# Altium footprint library Breathalyzer.PcbLib: 32 footprints (part 2 of 2)
Each footprint in its own frame and in the unit in brackets; x right, y up, seen from the top. Pads: shape width x height; smd on the part's side, far side on the other; paste and mask are expansions set on the pad; w line width, h text height; cw(c..) or ccw(c..) is an arc to the next point about the centre after c.
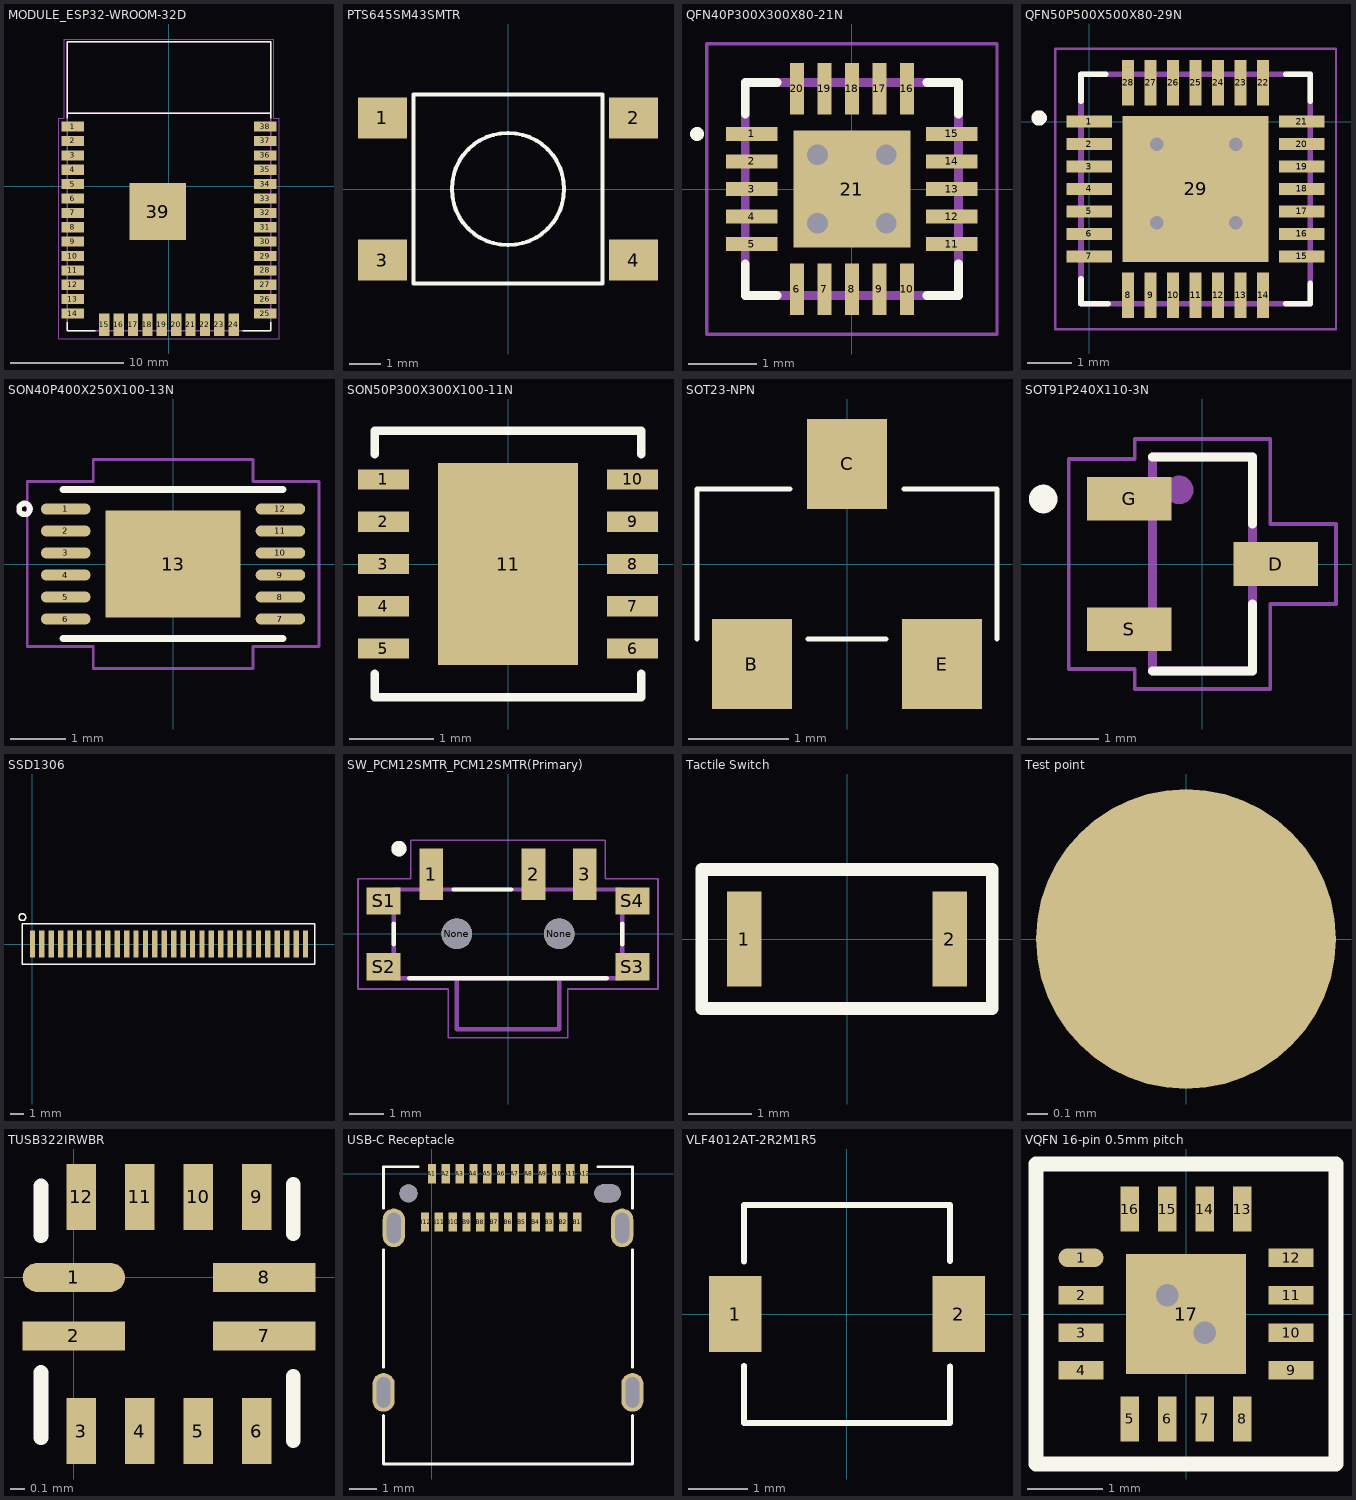
[diagram p1: the footprints below, top view; thin cyan lines are the x and y axes]

## MODULE_ESP32-WROOM-32D [mm]
pads (39):
  rect 2x0.9 smd: 1(-8.5,5.26) 2(-8.5,3.99) 3(-8.5,2.72) 4(-8.5,1.45) 5(-8.5,0.18) 6(-8.5,-1.09) 7(-8.5,-2.36) 8(-8.5,-3.63) 9(-8.5,-4.9) 10(-8.5,-6.17) 11(-8.5,-7.44) 12(-8.5,-8.71) 13(-8.5,-9.98) 14(-8.5,-11.25) 25(8.5,-11.25) 26(8.5,-9.98) 27(8.5,-8.71) 28(8.5,-7.44) 29(8.5,-6.17) 30(8.5,-4.9) 31(8.5,-3.63) 32(8.5,-2.36) 33(8.5,-1.09) 34(8.5,0.18) 35(8.5,1.45) 36(8.5,2.72) 37(8.5,3.99) 38(8.5,5.26)
  rect 0.9x2 smd: 15(-5.715,-12.25) 16(-4.445,-12.25) 17(-3.175,-12.25) 18(-1.905,-12.25) 19(-0.635,-12.25) 20(0.635,-12.25) 21(1.905,-12.25) 22(3.175,-12.25) 23(4.445,-12.25) 24(5.715,-12.25)
  rect 5x5 smd: 39(-1,-2.24)
Top Overlay:
  lines w0.127: -9,-12 -9,-12.75 -6.5,-12.75 ; -9,6 -9,12.75 9,12.75 9,6 ; -8.96,6.45 8.96,6.45 ; 6.5,-12.75 9,-12.75 9,-12
Top Paste:
  region: -2.584,-0.659 0.581,-0.659 0.581,-3.825 -2.584,-3.825
Mechanical 4:
  circle w0.3: c-8.277,5.238 r0.1
  circle w0.3: c-8.277,5.238 r0.1
  lines w0.127: -9,-12.75 9,-12.75 ; -9,-12.75 -9,12.75 ; -9,-12.75 9,-12.75 ; -9,-12.75 -9,12.75 ; -9,12.75 9,12.75 ; -9,12.75 9,12.75 ; 9,-12.75 9,12.75 ; 9,-12.75 9,12.75 ; -8.96,6.45 8.96,6.45 -8.96,6.45
  text "ANTENNA" at -5.725,8.401 h1.88
  text "ANTENNA" at -5.725,8.401 h1.88
Mechanical 16:
  lines w0.05: -9.75,-13.5 9.75,-13.5 9.75,6 9.25,6 9.25,13 -9.25,13 -9.25,6 -9.75,6 -9.75,-13.5
3D body "ESP32-WROOM-32D--3DModel-STEP-56544.STEP": height 3.26, standoff 0.01, extent -9,-12.75 9,12.75

## PTS645SM43SMTR [mm]
pads (4):
  rect 1.55x1.3 smd: 1(-3.975,2.25) 2(3.975,2.25) 3(-3.975,-2.25) 4(3.975,-2.25)
Top Overlay:
  circle w0.127: c0,0 r1.778
  lines w0.127: -3,-3 -3,3 3,3 3,-3 -3,-3
3D body "PTS645SL50SMTR92LFS.stp": height 5.02, standoff 0.01, extent -4.5,-3 4.5,3.002

## QFN40P300X300X80-21N [mm]
pads (21):
  rect 0.75x0.2 smd mask+0.05: 1(-1.455,0.8) 2(-1.455,0.4) 3(-1.455,0) 4(-1.455,-0.4) 5(-1.455,-0.8) 11(1.455,-0.8) 12(1.455,-0.4) 13(1.455,0) 14(1.455,0.4) 15(1.455,0.8)
  rect 0.2x0.75 smd mask+0.05: 6(-0.8,-1.455) 7(-0.4,-1.455) 8(0,-1.455) 9(0.4,-1.455) 10(0.8,-1.455) 16(0.8,1.455) 17(0.4,1.455) 18(0,1.455) 19(-0.4,1.455) 20(-0.8,1.455)
  rect 1.7x1.7 smd mask+0.05: 21(0,0)
via -0.5,0.5 diameter 0.6 hole 0.3
via 0.5,0.5 diameter 0.6 hole 0.3
via -0.5,-0.5 diameter 0.6 hole 0.3
via 0.5,-0.5 diameter 0.6 hole 0.3
Top Overlay:
  circle w0.2: c-2.25,0.8 r0.003
  lines w0.127: -1.55,-1.09 -1.55,-1.55 -1.09,-1.55 ; -1.55,1.09 -1.55,1.55 -1.09,1.55 ; 1.09,-1.55 1.55,-1.55 1.55,-1.09 ; 1.09,1.55 1.55,1.55 1.55,1.09
Top Paste:
  region: -0.538,0.538 0.538,0.538 0.538,-0.538 -0.538,-0.538
Mechanical 4:
  circle w0.2: c-1.25,0.8 r0.003
  circle w0.2: c-1.25,0.8 r0.003
  lines w0.127: -1.55,-1.55 1.55,-1.55 ; -1.55,-1.55 -1.55,1.55 ; -1.55,-1.55 1.55,-1.55 ; -1.55,-1.55 -1.55,1.55 ; -1.55,1.55 1.55,1.55 ; -1.55,1.55 1.55,1.55 ; 1.55,-1.55 1.55,1.55 ; 1.55,-1.55 1.55,1.55
Mechanical 16:
  lines w0.05: -2.11,-2.11 2.11,-2.11 2.11,2.11 -2.11,2.11 -2.11,-2.11
3D body "User Library-QFN-20-2.step": height 0.75, standoff 0, extent -1.52,-1.51 1.5,1.51

## QFN50P500X500X80-29N [mm]
pads (29):
  rect 1.01x0.27 smd mask+0.05: 1(0,0) 2(0,-0.5) 3(0,-1) 4(0,-1.5) 5(0,-2) 6(0,-2.5) 7(0,-3) 15(4.72,-3) 16(4.72,-2.5) 17(4.72,-2) 18(4.72,-1.5) 19(4.72,-1) 20(4.72,-0.5) 21(4.72,0)
  rect 0.27x1.01 smd mask+0.05: 8(0.86,-3.86) 9(1.36,-3.86) 10(1.86,-3.86) 11(2.36,-3.86) 12(2.86,-3.86) 13(3.36,-3.86) 14(3.86,-3.86) 22(3.86,0.86) 23(3.36,0.86) 24(2.86,0.86) 25(2.36,0.86) 26(1.86,0.86) 27(1.36,0.86) 28(0.86,0.86)
  rect 3.25x3.25 smd mask+0.05: 29(2.36,-1.5)
via 3.25,-2.25 diameter 0.6 hole 0.3
via 1.5,-2.25 diameter 0.6 hole 0.3
via 3.25,-0.5 diameter 0.6 hole 0.3
via 1.5,-0.5 diameter 0.6 hole 0.3
Top Overlay:
  circle w0.2: c-1.118,0.078 r0.07
  lines w0.127: -0.19,-3.5 -0.19,-4.05 0.41,-4.05 ; -0.19,0.45 -0.19,1.05 0.36,1.05 ; 4.36,-4.05 4.91,-4.05 4.91,-3.6 ; 4.36,1.05 4.91,1.05 4.91,0.45
Top Paste:
  region: 2.54,-0.17 3.69,-0.17 3.69,-1.32 2.54,-1.32
  region: 1.029,-1.321 1.029,-0.169 2.179,-0.169 2.179,-1.321
  region: 2.18,-2.831 1.029,-2.831 1.029,-1.68 2.18,-1.68
  region: 3.691,-1.681 3.691,-2.831 2.539,-2.831 2.539,-1.681
Mechanical 4:
  lines w0.127: -0.19,-4.05 4.91,-4.05 ; -0.19,-4.05 -0.19,1.05 ; -0.19,-4.05 4.91,-4.05 ; -0.19,-4.05 -0.19,1.05 ; -0.19,1.05 4.91,1.05 ; -0.19,1.05 4.91,1.05 ; 4.91,-4.05 4.91,1.05 ; 4.91,-4.05 4.91,1.05
Mechanical 16:
  lines w0.05: -0.76,-4.62 5.48,-4.62 5.48,1.62 -0.76,1.62 -0.76,-4.62
3D body "User Library-QFN28-0_5.STEP": height 1, standoff 0, extent -0.2,-4 4.8,1

## SON40P400X250X100-13N [mm]
pads (13):
  oval 0.9x0.2 smd mask+0.05: 1(-1.95,1) 2(-1.95,0.6) 3(-1.95,0.2) 4(-1.95,-0.2) 5(-1.95,-0.6) 6(-1.95,-1) 7(1.95,-1) 8(1.95,-0.6) 9(1.95,-0.2) 10(1.95,0.2) 11(1.95,0.6) 12(1.95,1)
  rect 2.45x1.95 smd mask+0.102: 13(0,0)
Top Overlay:
  circle w0.1: c-2.7,1 r0.1
  lines w0.127: -2,-1.35 2,-1.35 ; -2,1.35 2,1.35
Top Paste:
  region: 1.1,0.9 1.1,0.1 0.1,0.1 0.1,0.9
  region: -0.1,-0.1 -0.1,-0.902 -1.102,-0.902 -1.102,-0.1
  region: -0.101,0.901 -0.101,0.099 -1.101,0.099 -1.101,0.901
  region: 1.101,-0.101 1.101,-0.901 0.099,-0.901 0.099,-0.101
Mechanical 16:
  lines w0.05: -2.65,-1.5 -1.45,-1.5 -1.45,-1.9 1.45,-1.9 1.45,-1.5 2.65,-1.5 2.65,1.5 1.45,1.5 1.45,1.9 -1.45,1.9 -1.45,1.5 -2.65,1.5 -2.65,-1.5
3D body "User Library-SON-12-2.step": height 1.06, standoff 0.01, extent -2.075,-1.3 2.075,1.3

## SON50P300X300X100-11N [mm]
pads (11):
  rect 0.6x0.24 smd mask+0.05: 1(-1.473,1) 2(-1.473,0.5) 3(-1.473,0) 4(-1.473,-0.5) 5(-1.473,-1) 6(1.473,-1) 7(1.473,-0.5) 8(1.473,0) 9(1.473,0.5) 10(1.473,1)
  rect 1.651x2.388 smd mask+0.05: 11(0,0)
Top Overlay:
  lines w0.1: -1.575,-1.3 -1.575,-1.575 1.575,-1.575 1.575,-1.295 ; -1.575,1.3 -1.575,1.575 1.575,1.575 1.575,1.295
3D body "SON50P300X300X100-11N__NA__TEXAS INSTRUMENTS__VSON-10__DRC--3DModel-Eagle-1.STEP": height 0.87, standoff -0.03, extent -1.525,-1.5 1.525,1.5

## SOT23-NPN [mm]
pads (3):
  rect 0.8x0.9 smd: B(-0.95,-1) C(0,1) E(0.95,-1)
Top Overlay:
  lines w0.05: -1.5,-0.75 -1.5,0.75 -0.57,0.75 ; -0.39,-0.75 0.39,-0.75 ; 0.57,0.75 1.5,0.75 1.5,-0.75
3D body "CircuitWorks-SOT-23.step": height 1.11, standoff 0.01, extent -1.5,-1.25 1.5,1.25

## SOT91P240X110-3N [mm]
pads (3):
  rect 1.18x0.61 smd: D(1.025,0) G(-1.025,0.915) S(-1.025,-0.915)
Top Overlay:
  circle w0.2: c-2.23,0.91 r0.1
  lines w0.127: -0.7,-1.5 0.7,-1.5 0.7,-0.56 ; -0.7,1.5 0.7,1.5 0.7,0.56
Mechanical 4:
  circle w0.2: c-0.325,1.037 r0.1
  circle w0.2: c-0.325,1.037 r0.1
  lines w0.127: -0.7,-1.5 -0.7,1.5 ; -0.7,-1.5 0.7,-1.5 ; -0.7,-1.5 -0.7,1.5 ; -0.7,-1.5 0.7,-1.5 ; -0.7,1.5 0.7,1.5 ; -0.7,1.5 0.7,1.5 ; 0.7,-1.5 0.7,1.5 ; 0.7,-1.5 0.7,1.5
Mechanical 16:
  lines w0.05: -1.87,-1.47 -1.87,1.47 -0.95,1.47 -0.95,1.75 0.95,1.75 0.95,0.56 1.87,0.56 1.87,-0.56 0.95,-0.56 0.95,-1.75 -0.95,-1.75 -0.95,-1.47 -1.87,-1.47
3D body "CircuitWorks-SOT-23.step": height 1.11, standoff 0.01, extent -1.25,-1.5 1.25,1.5

## SSD1306 [mm] "OLED Display 128x64"
pads (32):
  rect 0.4x2 smd mask+0.1: 1(0,0) 1(0,0) 1(0,0) 2(0.7,0) 3(1.4,0) 4(2.1,0) 5(2.8,0) 6(3.5,0) 7(4.2,0) 8(4.9,0) 9(5.6,0) 10(6.3,0) 11(7,0) 12(7.7,0) 13(8.4,0) 14(9.1,0) 15(9.8,0) 16(10.5,0) 17(11.2,0) 18(11.9,0) 19(12.6,0) 20(13.3,0) 21(14,0) 22(14.7,0) 23(15.4,0) 24(16.1,0) 25(16.8,0) 26(17.5,0) 27(18.2,0) 28(18.9,0) 29(19.6,0) 30(20.3,0)
Top Overlay:
  circle w0.1: c-0.75,2 r0.25
  lines w0.1: -0.75,-1.5 21,-1.5 21,1.5 -0.75,1.5 -0.75,-1.5
3D body "User Library-096OLED.step": height 3.85, standoff 0.01, extent -3.2,-15.317 23.5,6.9

## SW_PCM12SMTR_PCM12SMTR(Primary) [mm]
pads (9):
  rect 0.7x1.5 smd: 1(-2.25,1.75) 2(0.75,1.75) 3(2.25,1.75)
  round 0.9 hole 0.9 unplated: None(-1.5,0) None(1.5,0)
  rect 1x0.8 smd: S1(-3.65,0.965) S2(-3.65,-0.965) S3(3.65,-0.965) S4(3.65,0.965)
Top Overlay:
  circle w0.25: c-3.2,2.5 r0.1
  lines w0.127: -3.35,-0.3 -3.35,0.3 ; -2.9,-1.3 2.9,-1.3 ; -1.6,1.3 0.1,1.3 ; 3.35,-0.3 3.35,0.3
Mechanical 4:
  circle w0.25: c-3.2,2.5 r0.1
  circle w0.25: c-3.2,2.5 r0.1
  lines w0.127: -3.35,-1.3 -1.5,-1.3 ; -3.35,-1.3 -3.35,1.3 ; -3.35,-1.3 -1.5,-1.3 ; -3.35,-1.3 -3.35,1.3 ; -3.35,1.3 3.35,1.3 ; -3.35,1.3 3.35,1.3 ; -1.5,-2.8 -1.5,-1.3 ; -1.5,-2.8 1.5,-2.8 ; -1.5,-2.8 -1.5,-1.3 ; -1.5,-2.8 1.5,-2.8 ; -1.5,-1.3 1.5,-1.3 ; -1.5,-1.3 1.5,-1.3 ; 1.5,-2.8 1.5,-1.3 ; 1.5,-2.8 1.5,-1.3 ; 1.5,-1.3 3.35,-1.3 ; 1.5,-1.3 3.35,-1.3 ; 3.35,-1.3 3.35,1.3 ; 3.35,-1.3 3.35,1.3
Mechanical 16:
  lines w0.05: -4.4,-1.615 -1.75,-1.615 -1.75,-3.05 1.75,-3.05 1.75,-1.615 4.4,-1.615 4.4,1.615 2.85,1.615 2.85,2.75 -2.85,2.75 -2.85,1.615 -4.4,1.615 -4.4,-1.615
3D body "User Library-pcm12smtr.STEP": height 1.4, standoff -0.5, extent -3.681,-2.344 3.673,2.23

## Tactile Switch [mm]
pads (2):
  rect 0.55x1.5 smd: 1(-1.625,0) 2(1.625,0)
Top Overlay:
  lines w0.2: -2.3,-1.1 2.3,-1.1 2.3,1.1 -2.3,1.1 -2.3,-1.1
3D body "EVPAW-BCE-D2A-D4A.step": height 0.57, standoff -0.03, extent -1.75,-1.1 1.75,1.1

## Test point [mm]
pads (1):
  round 1.5 smd mask+0.05: ""(0,0)

## TUSB322IRWBR [mm]
pads (12):
  oval 0.7x0.2 smd mask+0.05: 1(0,0)
  rect 0.7x0.2 smd mask+0.05: 2(0,-0.4) 7(1.3,-0.4) 8(1.3,0)
  rect 0.2x0.45 smd mask+0.05: 3(0.05,-1.05) 4(0.45,-1.05) 5(0.85,-1.05) 6(1.25,-1.05) 9(1.25,0.55) 10(0.85,0.55) 11(0.45,0.55) 12(0.05,0.55)
Top Overlay:
  lines w0.1: -0.225,-1.095 -0.225,-0.65 ; -0.225,0.285 -0.225,0.625 ; 1.5,-1.115 1.5,-0.675 ; 1.5,0.3 1.5,0.635
3D body "User Library-X2QFN-12_1_65.STEP": height 0.61, standoff 0.01, extent -0.19,-1.02 1.46,0.63

## USB-C Receptacle [mm] "SMD USB-C Receptacle"
pads (30):
  rect 0.3x0.7 smd mask+0.05: A1(0,0) A2(0.5,0) A3(1,0) A4(1.5,0) A5(2,0) A6(2.5,0) A7(3,0) A8(3.5,0) A9(4,0) A10(4.5,0) A11(5,0) A12(5.5,0) B1(5.25,-1.75) B2(4.75,-1.75) B3(4.25,-1.75) B4(3.75,-1.75) B5(3.25,-1.75) B6(2.75,-1.75) B7(2.25,-1.75) B8(1.75,-1.75) B9(1.25,-1.75) B10(0.75,-1.75) B11(0.25,-1.75) B12(-0.25,-1.75)
  rrect100% 0.8x1.4 hole 0.5 slot 1.1 at 90 deg mask+0.1: ""(-1.75,-7.91) ""(-1.38,-1.96) ""(6.88,-1.96) ""(7.25,-7.91)
  round 0.65 hole 0.65 unplated mask+0: ""(-0.85,-0.71)
  oval 0.95x0.65 hole 0.65 slot 0.95 at 0 deg unplated mask+0: ""(6.35,-0.71)
Top Overlay:
  lines w0.1: -1.75,-8.75 -1.75,-10.5 7.25,-10.5 7.25,-8.75 ; -1.75,-7 -1.75,-2.75 ; -1.75,-1.25 -1.75,0.25 -0.5,0.25 ; 6,0.25 7.25,0.25 7.25,-1.25 ; 7.25,-7 7.25,-2.75 ; -1.75,-2.75 -1.75,-2.75
3D body "12401598E4#2A--3DModel-STEP-56544.STEP": height 3.29, standoff -2.09, extent -1.85,-10.25 7.35,0.25

## VLF4012AT-2R2M1R5 [mm]
pads (2):
  rect 0.9x1.3 smd: 1(-1.9,0) 2(1.9,0)
Top Overlay:
  lines w0.1: -1.75,-0.88 -1.75,-1.85 1.75,-1.85 1.75,-0.89 ; -1.75,0.89 -1.75,1.85 0,1.85 1.75,1.85 1.75,0.9
3D body "Ind_TDK_VLF4012AT-2R2M1R5_eec.STEP": height 1.03, standoff 0.01, extent -1.754,-1.85 1.746,1.85

## VQFN 16-pin 0.5mm pitch [mm]
pads (17):
  oval 0.6x0.25 smd mask+0.05: 1(-1.4,0.75)
  rect 0.6x0.25 smd mask+0.05: 2(-1.4,0.25) 3(-1.4,-0.25) 4(-1.4,-0.75) 9(1.4,-0.75) 10(1.4,-0.25) 11(1.4,0.25) 12(1.4,0.75)
  rect 0.25x0.6 smd mask+0.05: 5(-0.75,-1.4) 6(-0.25,-1.4) 7(0.25,-1.4) 8(0.75,-1.4) 13(0.75,1.4) 14(0.25,1.4) 15(-0.25,1.4) 16(-0.75,1.4)
  rect 1.6x1.6 smd mask+0.05: 17(0,0)
via 0.25,-0.25 diameter 0.6 hole 0.3
via -0.25,0.25 diameter 0.6 hole 0.3
Top Overlay:
  lines w0.2: -2,-2 -2,2 2,2 2,-2 -2,-2
3D body "User Library-qfn16-3x3.step": height 0.92, standoff 0, extent -1.5,-1.475 1.5,1.525